# EAGLE library part TA8238K (library Audio-Power-amplifier)
http://www.datasheetcatalog.org/datasheet/toshiba/1383.pdf
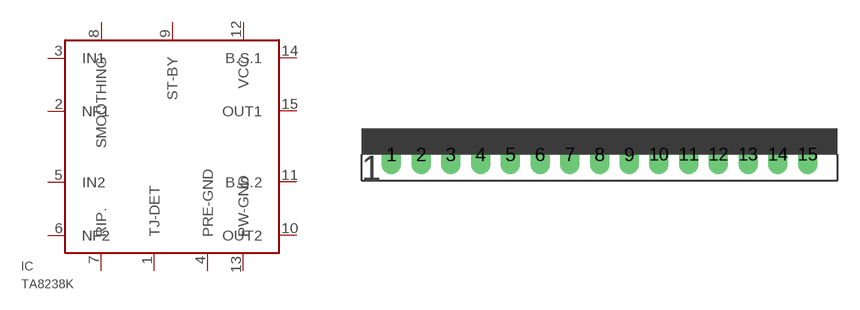
[diagram p46: symbol with the pads of HSIP15-P-2.00A; footprint HSIP15-P-2.00A]

Designator prefix IC

## TA8238K  [HSIP15-P-2.00A]
1  TJ-DET  pas
2  NF1  in
3  IN1  in
4  PRE-GND  pwr
5  IN2  in
6  NF2  in
7  RIP.  pas
8  SMOOTHING  pas
9  ST-BY  pas
10  OUT2  out
11  B.S.2  pas
12  VCC  pwr
13  PW-GND  pas
14  B.S.1  pas
15  OUT1  out

## Footprint HSIP15-P-2.00A (pad centres in mm)
drill 0.8 long: 1 -13.97,-1.27; 2 -11.97,-1.27; 3 -9.97,-1.27; 4 -7.97,-1.27; 5 -5.97,-1.27; 6 -3.97,-1.27; 7 -1.97,-1.27; 8 0.03,-1.27; 9 2.03,-1.27; 10 4.03,-1.27; 11 6.03,-1.27; 12 8.03,-1.27; 13 10.03,-1.27; 14 12.03,-1.27; 15 14.03,-1.27